# Altium schematic symbol library Interfaces.SchLib: 21 symbols
Pins are listed as number, name and electrical type; pins without a type are passive.

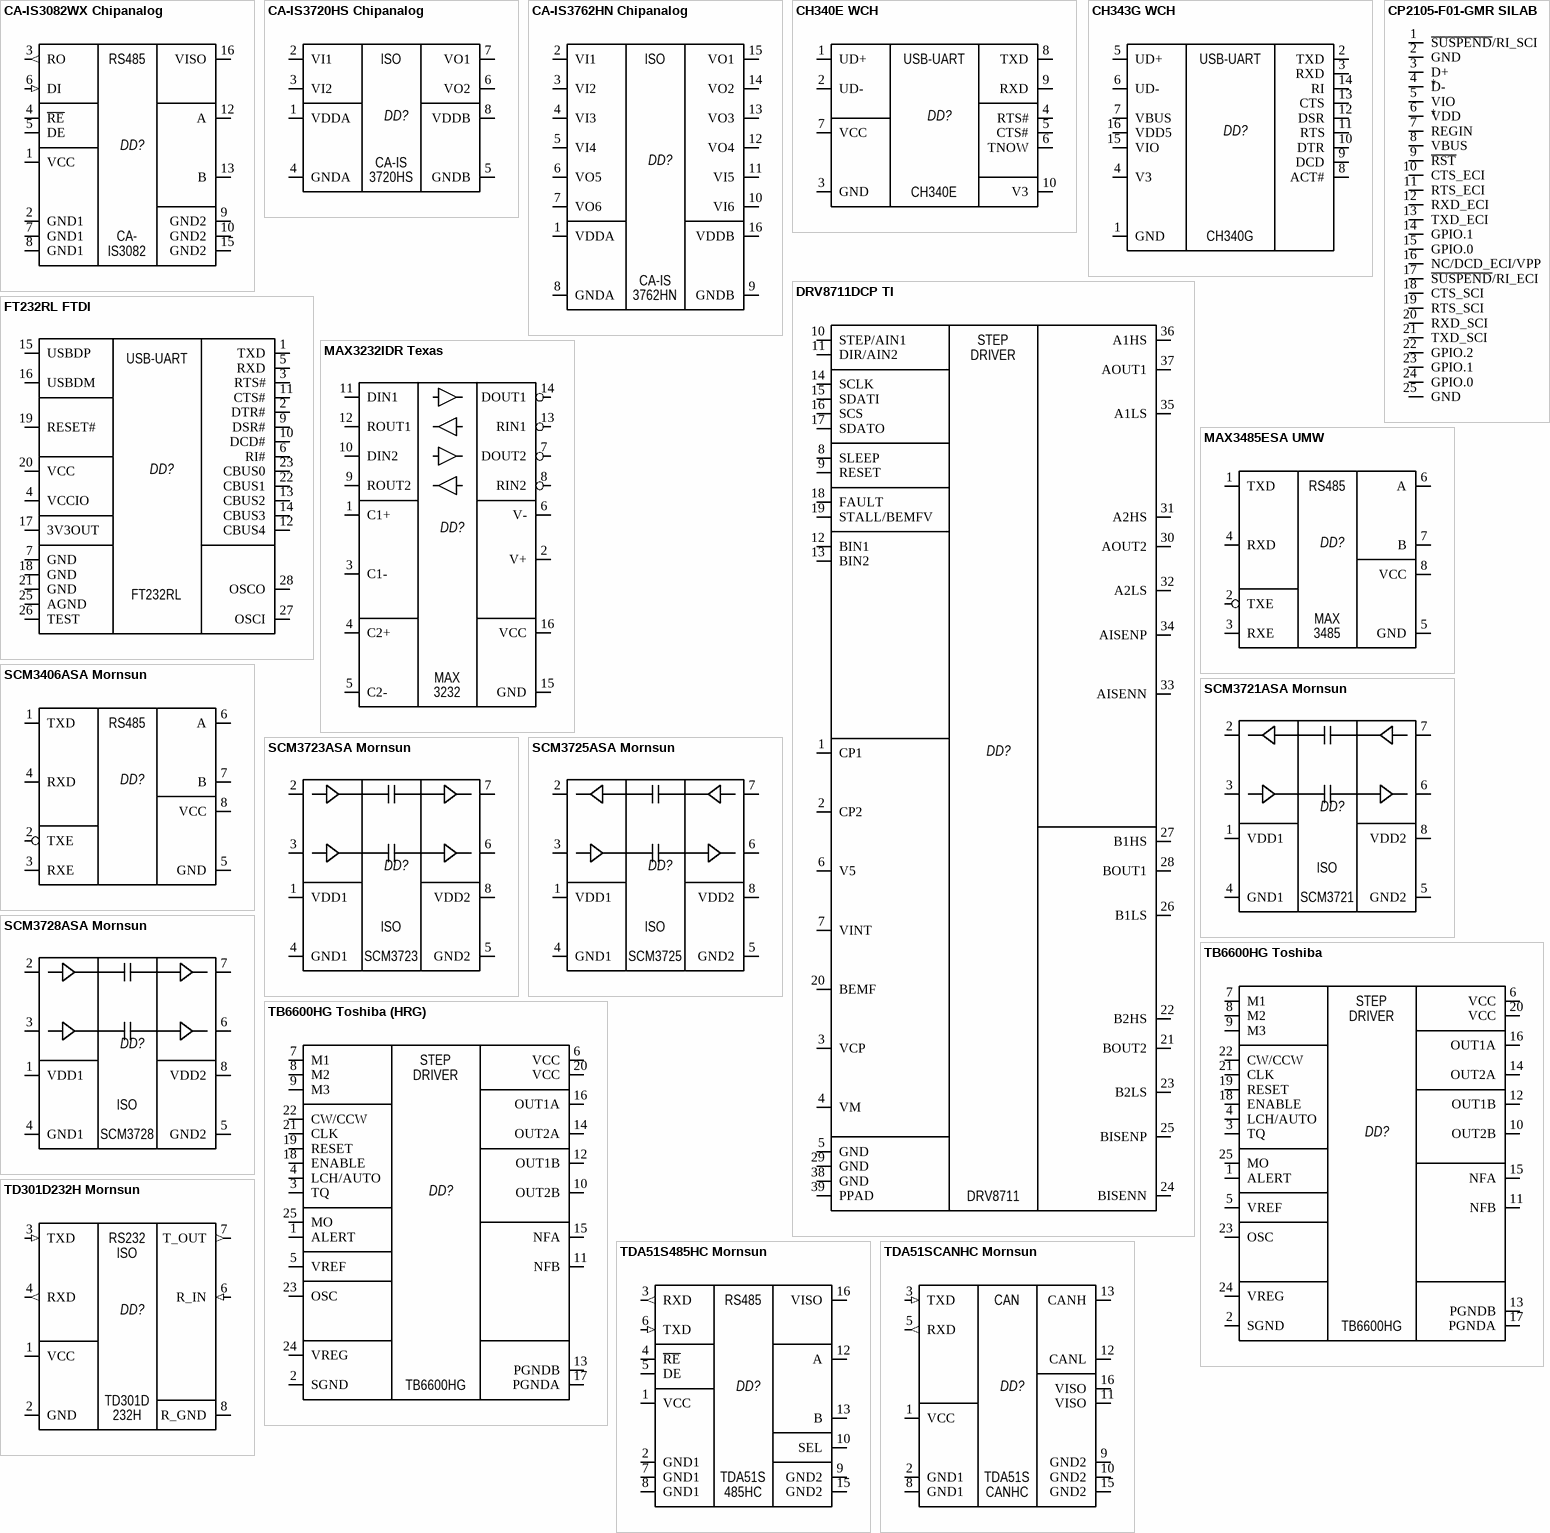
[diagram p0: symbols CA-IS3082WX Chipanalog to TDA51SCANHC Mornsun]

## CA-IS3082WX Chipanalog
designator DD?  (value not drawn)
footprint SOIC-16/300mil
pins: 1 VCC, 2 GND1, 3 RO (out), 4 ~{RE}, 5 DE, 6 DI (in), 7 GND1, 8 GND1, 9 GND2, 10 GND2, 12 A, 13 B, 15 GND2, 16 VISO
text: RS485; CA-; IS3082

## CA-IS3720HS Chipanalog
designator DD?
footprint SOIC-8/150mil
pins: 1 VDDA, 2 VI1, 3 VI2, 4 GNDA, 5 GNDB, 6 VO2, 7 VO1, 8 VDDB
text: ISO; CA-IS; 3720HS

## CA-IS3762HN Chipanalog
designator DD?
footprint SOIC-16/150mil
pins: 1 VDDA, 2 VI1, 3 VI2, 4 VI3, 5 VI4, 6 VO5, 7 VO6, 8 GNDA, 9 GNDB, 10 VI6, 11 VI5, 12 VO4, 13 VO3, 14 VO2, 15 VO1, 16 VDDB
text: ISO; CA-IS; 3762HN

## CH340E WCH
designator DD?  (value not drawn)
Partnumber: CH343G WCH
footprint MSOP-10
pins: 1 UD+, 2 UD-, 3 GND, 4 RTS#, 5 CTS#, 6 TNOW, 7 VCC, 8 TXD, 9 RXD, 10 V3
text: USB-UART; CH340E

## CH343G WCH
designator DD?  (value not drawn)
Partnumber: CH343G WCH
footprint SOIC-16/150mil
pins: 1 GND, 2 TXD, 3 RXD, 4 V3, 5 UD+, 6 UD-, 7 VBUS, 8 ACT#, 9 DCD, 10 DTR, 11 RTS, 12 DSR, 13 CTS, 14 RI, 15 VIO, 16 VDD5
text: USB-UART; CH340G

## CP2105-F01-GMR SILAB
designator *
pins: 1 ~{SUSPEND}/RI_SCI, 2 GND, 3 D+, 4 D-, 5 VIO, 6 VDD, 7 REGIN, 8 VBUS, 9 ~{RST}, 10 CTS_ECI, 11 RTS_ECI, 12 RXD_ECI, 13 TXD_ECI, 14 GPIO.1, 15 GPIO.0, 16 NC/DCD_ECI/VPP, 17 ~{SUSPEND}/RI_ECI, 18 CTS_SCI, 19 RTS_SCI, 20 RXD_SCI, 21 TXD_SCI, 22 GPIO.2, 23 GPIO.1, 24 GPIO.0, 25 GND

## DRV8711DCP TI
designator DD?  (value not drawn)
footprint TSSOP-38P
pins: 1 CP1, 2 CP2, 3 VCP, 4 VM, 5 GND, 6 V5, 7 VINT, 8 SLEEP, 9 RESET, 10 STEP/AIN1, 11 DIR/AIN2, 12 BIN1, 13 BIN2, 14 SCLK, 15 SDATI, 16 SCS, 17 SDATO, 18 FAULT, 19 STALL/BEMFV, 20 BEMF, 21 BOUT2, 22 B2HS, 23 B2LS, 24 BISENN, 25 BISENP, 26 B1LS, 27 B1HS, 28 BOUT1, 29 GND, 30 AOUT2, 31 A2HS, 32 A2LS, 33 AISENN, 34 AISENP, 35 A1LS, 36 A1HS, 37 AOUT1, 38 GND, 39 PPAD
text: STEP; DRIVER; DRV8711

## FT232RL FTDI
designator DD?  (value not drawn)
footprint SSOP-28
pins: 1 TXD, 2 DTR#, 3 RTS#, 4 VCCIO, 5 RXD, 6 RI#, 7 GND, 9 DSR#, 10 DCD#, 11 CTS#, 12 CBUS4, 13 CBUS2, 14 CBUS3, 15 USBDP, 16 USBDM, 17 3V3OUT, 18 GND, 19 RESET#, 20 VCC, 21 GND, 22 CBUS1, 23 CBUS0, 25 AGND, 26 TEST, 27 OSCI, 28 OSCO
text: USB-UART; FT232RL

## MAX3232IDR Texas
designator DD?  (value not drawn)
Приемопередатчик RS232 120кбод
footprint SOIC-16/150mil
pins: 1 C1+, 2 V+, 3 C1-, 4 C2+, 5 C2-, 6 V-, 7 DOUT2, 8 RIN2, 9 ROUT2, 10 DIN2, 11 DIN1, 12 ROUT1, 13 RIN1, 14 DOUT1, 15 GND, 16 VCC
text: MAX; 3232

## MAX3485ESA UMW
designator DD?  (value not drawn)
Приемопередатчик RS485 10МБит
footprint SOIC-8/150mil
pins: 1 TXD, 2 TXE, 3 RXE, 4 RXD, 5 GND, 6 A, 7 B, 8 VCC
text: RS485; MAX; 3485

## SCM3406ASA Mornsun
designator DD?  (value not drawn)
Приемопередатчик RS485 10МБит
footprint SOIC-8/150mil
pins: 1 TXD, 2 TXE, 3 RXE, 4 RXD, 5 GND, 6 A, 7 B, 8 VCC
text: RS485

## SCM3721ASA Mornsun
designator DD?, comment Цифр. изолятор 150кБит  (value not drawn)
footprint SOIC-8/150mil
pins: 1 VDD1, 2, 3, 4 GND1, 5 GND2, 6, 7, 8 VDD2
text: ISO; SCM3721

## SCM3723ASA Mornsun
designator DD?, comment Цифр. изолятор 150кБит  (value not drawn)
footprint SOIC-8/150mil
pins: 1 VDD1, 2, 3, 4 GND1, 5 GND2, 6, 7, 8 VDD2
text: ISO; SCM3723

## SCM3725ASA Mornsun
designator DD?, comment Цифр. изолятор 10МБит  (value not drawn)
footprint SOIC-8/150mil
pins: 1 VDD1, 2, 3, 4 GND1, 5 GND2, 6, 7, 8 VDD2
text: ISO; SCM3725

## SCM3728ASA Mornsun
designator DD?, comment Цифр. изолятор 10МБит  (value not drawn)
footprint SOIC-8/150mil
pins: 1 VDD1, 2, 3, 4 GND1, 5 GND2, 6, 7, 8 VDD2
text: ISO; SCM3728

## TB6600HG Toshiba
designator DD?  (value not drawn)
footprint TB6600HG
pins: 1 ALERT, 2 SGND, 3 TQ, 4 LCH/AUTO, 5 VREF, 6 VCC, 7 M1, 8 M2, 9 M3, 10 OUT2B, 11 NFB, 12 OUT1B, 13 PGNDB, 14 OUT2A, 15 NFA, 16 OUT1A, 17 PGNDA, 18 ENABLE, 19 RESET, 20 VCC, 21 CLK, 22 CW/CCW, 23 OSC, 24 VREG, 25 MO
1 alternate drawing of the same symbol
text: STEP; DRIVER; TB6600HG

## TB6600HG Toshiba (HRG)
designator DD?  (value not drawn)
footprint TB6600HG-HRZ
pins: 1 ALERT, 2 SGND, 3 TQ, 4 LCH/AUTO, 5 VREF, 6 VCC, 7 M1, 8 M2, 9 M3, 10 OUT2B, 11 NFB, 12 OUT1B, 13 PGNDB, 14 OUT2A, 15 NFA, 16 OUT1A, 17 PGNDA, 18 ENABLE, 19 RESET, 20 VCC, 21 CLK, 22 CW/CCW, 23 OSC, 24 VREG, 25 MO
1 alternate drawing of the same symbol
text: STEP; DRIVER; TB6600HG

## TD301D232H Mornsun
designator DD?  (value not drawn)
footprint TDx01D232H(G)
pins: 1 VCC, 2 GND, 3 TXD (in), 4 RXD (out), 6 R_IN (in), 7 T_OUT (out), 8 R_GND
text: RS232; ISO; TD301D; 232H

## TDA51S485HC Mornsun
designator DD?  (value not drawn)
footprint SOIC-16/300mil
pins: 1 VCC, 2 GND1, 3 RXD (out), 4 ~{RE}, 5 DE, 6 TXD (in), 7 GND1, 8 GND1, 9 GND2, 10 SEL, 12 A, 13 B, 15 GND2, 16 VISO
text: RS485; TDA51S; 485HC

## TDA51SCANHC Mornsun
designator DD?  (value not drawn)
CAN-трансивер
footprint SOIC-16/300mil
pins: 1 VCC, 2 GND1, 3 TXD (in), 5 RXD (out), 8 GND1, 9 GND2, 10 GND2, 11 VISO, 12 CANL, 13 CANH, 15 GND2, 16 VISO
text: CAN; TDA51S; CANHC

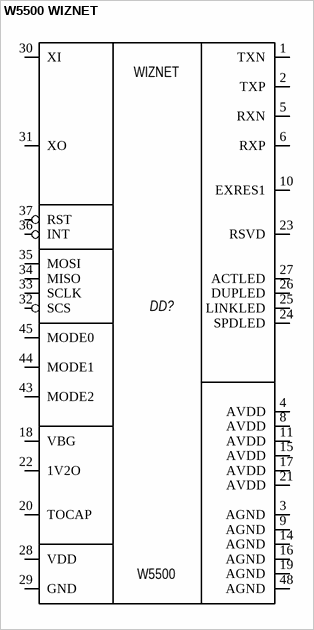
[diagram p1: symbol W5500 WIZNET]

## W5500 WIZNET
designator DD?  (value not drawn)
Partnumber: W5500 WIZNET
footprint LQFP-48/9x9x0.5
pins: 1 TXN, 2 TXP, 3 AGND, 4 AVDD, 5 RXN, 6 RXP, 8 AVDD, 9 AGND, 10 EXRES1, 11 AVDD, 14 AGND, 15 AVDD, 16 AGND, 17 AVDD, 18 VBG, 19 AGND, 20 TOCAP, 21 AVDD, 22 1V2O, 23 RSVD, 24 SPDLED, 25 LINKLED, 26 DUPLED, 27 ACTLED, 28 VDD, 29 GND, 30 XI, 31 XO, 32 SCS, 33 SCLK, 34 MISO, 35 MOSI, 36 INT, 37 RST, 43 MODE2, 44 MODE1, 45 MODE0, 48 AGND
1 alternate drawing of the same symbol
text: WIZNET; W5500